# Altium footprint library PcbLib1.PcbLib: 1 footprints
Each footprint in its own frame and in the unit in brackets; x right, y up, seen from the top. Pads: shape width x height; smd on the part's side, far side on the other; paste and mask are expansions set on the pad; w line width, h text height; cw(c..) or ccw(c..) is an arc to the next point about the centre after c.
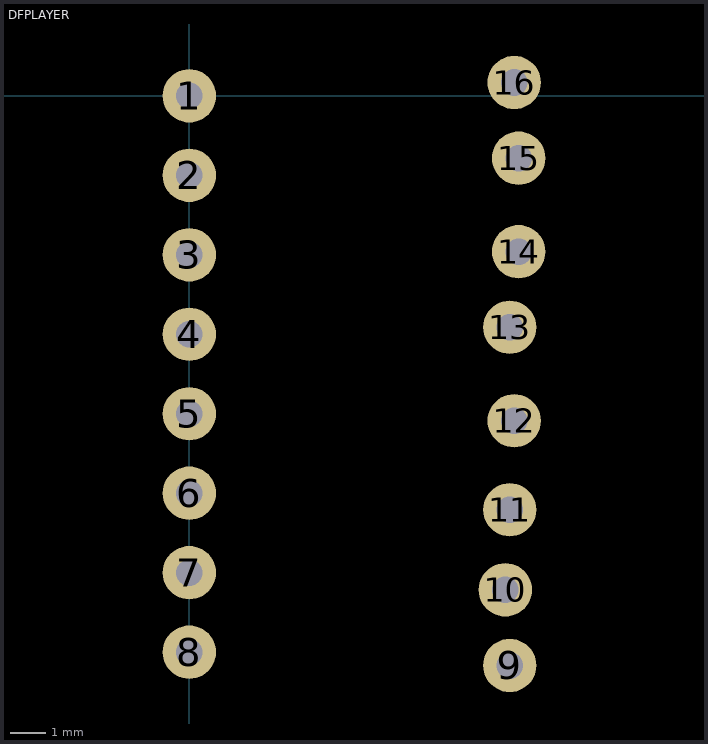
[diagram p0: the footprint, top view; thin cyan lines are the x and y axes]

## DFPLAYER [mil]
pads (16):
  round 60 hole 30: 1(0,0) 2(0,-89.29) 3(0,-178.57) 4(0,-267.86) 5(0,-357.14) 6(0,-446.43) 7(0,-535.71) 8(0,-625) 9(360,-640) 10(355,-555) 11(360,-465) 12(365,-365) 13(360,-260) 14(370,-175) 15(370,-70) 16(365,15)